# Altium schematic symbol library BIOSENSE_SCH.SchLib: 42 symbols
Pins are listed as number, name and electrical type; pins without a type are passive.

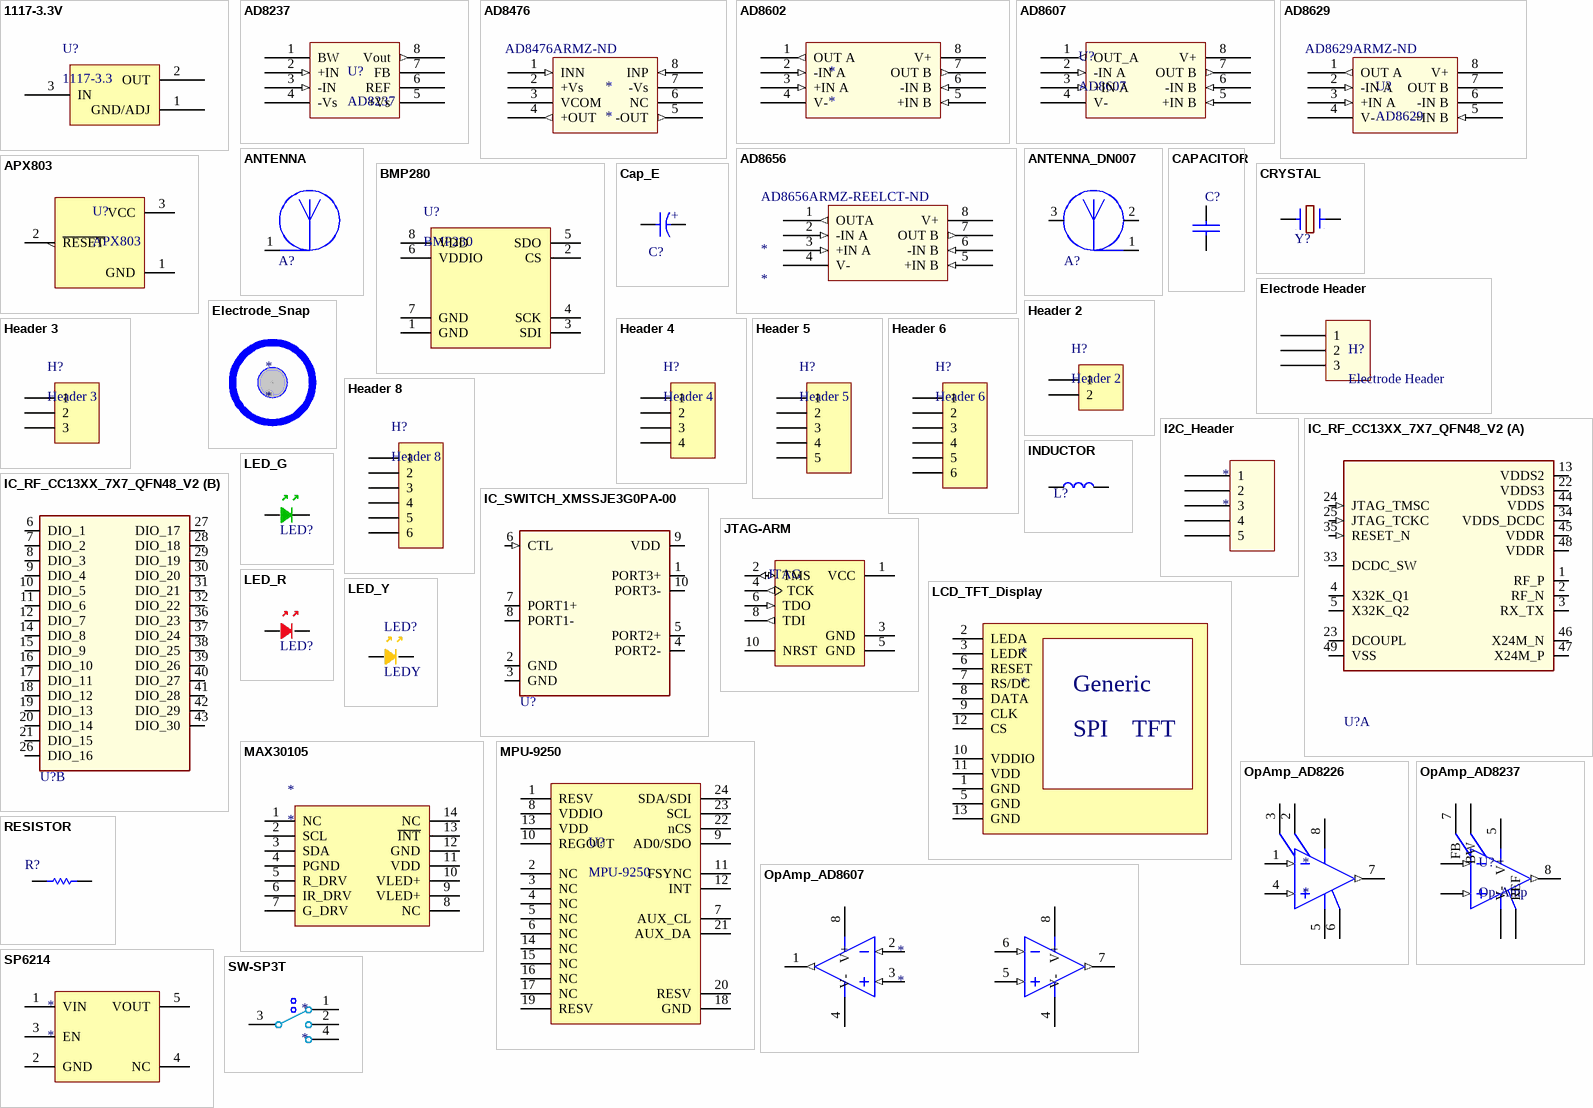
[diagram p0: symbols 1117-3.3V to SW-SP3T]

## 1117-3.3V
designator U?, comment 1117-3.3
3.3V Voltage Regulator
footprint SOT-223
pins: 1 GND/ADJ, 2 OUT, 3 IN

## AD8237
designator U?
Supplier 1: Digi-Key; Supplier Part Number 1: AD8237ARMZ-ND
footprint MSOP-8
pins: 1 BW, 2 +IN (in), 3 -IN (in), 4 -Vs (power), 5 +Vs (power), 6 REF, 7 FB, 8 Vout (out)

## AD8476
designator *  Supplier Part Number 1: AD8476ARMZ-ND
Supplier 1: Digi-Key
footprint MSOP-8
pins: 1 INN (in), 2 +Vs (power), 3 VCOM, 4 +OUT (out), 5 -OUT (out), 6 NC, 7 -Vs (power), 8 INP (in)

## AD8602
designator *
footprint MSOP-8
pins: 1 OUT A (out), 2 -IN A (in), 3 +IN A (in), 4 V- (power), 5 +IN B (in), 6 -IN B (in), 7 OUT B (out), 8 V+ (power)

## AD8607
designator U?
Supplier 1: Digi-Key; Supplier Part Number 1: AD8607ARMZ-R2CT-ND
footprint MSOP-8
pins: 1 OUT_A (out), 2 -IN A (in), 3 +IN A (in), 4 V- (power), 5 +IN B (in), 6 -IN B (in), 7 OUT B (out), 8 V+ (power)

## AD8629
designator U?  Supplier Part Number 1: AD8629ARMZ-ND
Supplier 1: Digi-Key
footprint MSOP-8
pins: 1 OUT A (out), 2 -IN A (in), 3 +IN A (in), 4 V- (power), 5 +IN B (in), 6 -IN B, 7 OUT B, 8 V+

## AD8656
designator *  Supplier Part Number 1: AD8656ARMZ-REELCT-ND
Supplier 1: Digi-Key
footprint MSOP-8
pins: 1 OUTA (out), 2 -IN A (in), 3 +IN A (in), 4 V- (power), 5 +IN B (in), 6 -IN B (in), 7 OUT B (out), 8 V+ (power)

## ANTENNA
designator A?
Designed by: Pawel Kwaskiewicz; CLASS: DISCRETE; Design date: 2010-02-22
footprint Sub-1GHz-Antenna
pins: 1 FEED/GND_1

## ANTENNA_DN007
designator A?
Designed by: Artur Bielinski; Design date: 2011-09-19
footprint Inverted_F_Antenna
pins: 1 FEED_1, 2 GND_2, 3 GND_3

## APX803
designator U?
footprint SOT23
pins: 1 GND, 2 ~{RESET}, 3 VCC

## BMP280
designator U?
footprint LGA-8
pins: 1 GND, 2 CS, 3 SDI, 4 SCK, 5 SDO, 6 VDDIO, 7 GND, 8 VDD

## Cap_E
designator C?, comment ?F  (value not drawn)
Capacitor; Value: ?F
footprint 2312 [IMP] Polar
pins: 1, 2
text: +

## CAPACITOR
designator C?
VOLTAGE: CMAX; CURRENT: CIMAX; KNEE: CBMAX; PSpiceTemplate: C^@REFDES %1 %2 ?TOLERANCE|C^@REFDES| @VALUE ?IC/IC=@IC/ TC=@TC1,@TC2 ?TOLERANCE|\n.model C^@REFDES CAP C=1 DEV=@TOLERANCE%|; DIST: FLAT; SLOPE: CSMAX; MAX_TEMP: CTMAX; TC1: 0; CLASS: DISCRETE; TC2: 0
simulation model CAPACITOR
footprint 0603[IMP]
footprint 0402[IMP]
footprint 0805[IMP]
footprint 1206[IMP]
pins: 1, 2
1 alternate drawing of the same symbol

## CRYSTAL
designator Y?
footprint FC-135
pins: 1, 2

## Electrode Header
designator H?
footprint Electrode Header
pins: 1, 2, 3

## Electrode_Snap
designator *
footprint Electrode_Socket
pins: 1 Signal

## Header 2
designator H?
footprint S2B-PH-SM4-TB (S2B-PH-SM$-TB)
pins: 1, 2

## Header 3
designator H?
footprint Header 3  -MolexPicoBlade - RightAngle
pins: 1, 2, 3

## Header 4
designator H?
footprint Header 4  -MolexPicoBlade - RightAngle
pins: 1, 2, 3, 4

## Header 5
designator H?
footprint Header 5  -MolexPicoBlade
footprint Header 5  -MolexPicoBlade - RightAngle
pins: 1, 2, 3, 4, 5

## Header 6
designator H?
pins: 1, 2, 3, 4, 5, 6

## Header 8
designator H?
pins: 1, 2, 3, 4, 5, 6

## I2C_Header
designator *
footprint I2C_Header
pins: 1, 2, 3, 4, 5

## IC_RF_CC13XX_7X7_QFN48_V2
designator U?
Designed_By: Artur Bielinski; SPLIT_INST: TRUE; SWAP_INFO: (S1+S2); Design_Date: 2014-09-04
footprint RGZ(S-PVQFN-N48) - duplicate
part A pins: 1 RF_P, 2 RF_N, 3 RX_TX (io), 4 X32K_Q1, 5 X32K_Q2, 13 VDDS2 (power), 22 VDDS3 (power), 23 DCOUPL, 24 JTAG_TMSC (in), 25 JTAG_TCKC (in), 33 DCDC_SW (power), 34 VDDS_DCDC (power), 35 RESET_N (in), 44 VDDS (power), 45 VDDR (power), 46 X24M_N, 47 X24M_P, 48 VDDR (power), 49 VSS (power)
part B pins: 6 DIO_1 (io), 7 DIO_2 (io), 8 DIO_3 (io), 9 DIO_4 (io), 10 DIO_5 (io), 11 DIO_6 (io), 12 DIO_7 (io), 14 DIO_8 (io), 15 DIO_9 (io), 16 DIO_10 (io), 17 DIO_11 (io), 18 DIO_12 (io), 19 DIO_13 (io), 20 DIO_14 (io), 21 DIO_15 (io), 26 DIO_16 (io), 27 DIO_17 (io), 28 DIO_18 (io), 29 DIO_19 (io), 30 DIO_20 (io), 31 DIO_21 (io), 32 DIO_22 (io), 36 DIO_23 (io), 37 DIO_24 (io), 38 DIO_25 (io), 39 DIO_26 (io), 40 DIO_27 (io), 41 DIO_28 (io), 42 DIO_29 (io), 43 DIO_30 (io)

## IC_SWITCH_XMSSJE3G0PA-00
designator U?
CLASS: IC; Designed_By: Artur Bielinski; Design_Date: 2015-06-03
footprint TSLP-10-1
pins: 1 PORT3+, 2 GND (power), 3 GND (power), 4 PORT2-, 5 PORT2+, 6 CTL (in), 7 PORT1+, 8 PORT1-, 9 VDD (power), 10 PORT3-

## INDUCTOR
designator L?
Current: LMAX; PSpiceTemplate: L^@REFDES %1 %2 ?TOLERANCE|L^@REFDES| @VALUE ?IC/IC=@IC/ ?TOLERANCE|\n.model l^@REFDES IND L=1 DEV=@TOLERANCE%|; DIELECTRIC: DSMAX; DIST: FLAT
simulation model INDUCTOR
footprint 0402[IMP]
pins: 1, 2

## JTAG-ARM
designator H?, comment JTAG
USB JTAG Programmer
footprint HDR-2*5-0.05_Without_Through_Hole
pins: 1 VCC (power), 2 TMS (io), 3 GND (power), 4 TCK (out), 5 GND (power), 6 TDO (in), 8 TDI (out), 10 NRST

## LCD_TFT_Display
designator *
footprint LCD_Ribbon
pins: 1 GND, 2 LEDA, 3 LEDK, 5 GND, 6 RESET, 7 RS/DC, 8 DATA, 9 CLK, 10 VDDIO, 11 VDD, 12 CS, 13 GND
text: Generic; SPI    TFT

## LED_G
designator LED?, comment LEDG  (value not drawn)
LED; Value: ?
footprint 0805[IMP] - POLAR
pins: 1 A, 2 K

## LED_R
designator LED?, comment LEDR  (value not drawn)
LED; Value: ?
footprint 0805[IMP] - POLAR
pins: 1 A, 2 K

## LED_Y
designator LED?, comment LEDY
LED; Value: ?
footprint 0805[IMP] - POLAR
pins: 1 A, 2 K

## MAX30105
designator *
footprint OLGA-14
pins: 1 NC, 2 SCL, 3 SDA, 4 PGND, 5 R_DRV, 6 IR_DRV, 7 G_DRV, 8 NC, 9 VLED+, 10 VLED+, 11 VDD, 12 GND, 13 ~{INT}, 14 NC

## MPU-9250
designator U?
footprint QFN-24-3mmx3mm
pins: 1 RESV, 2 NC, 3 NC, 4 NC, 5 NC, 6 NC, 7 AUX_CL, 8 VDDIO, 9 AD0/SDO, 10 REGOUT, 11 FSYNC, 12 INT, 13 VDD, 14 NC, 15 NC, 16 NC, 17 NC, 18 GND, 19 RESV, 20 RESV, 21 AUX_DA, 22 nCS, 23 SCL, 24 SDA/SDI

## OpAmp_AD8226
designator *
footprint SO-8_N (SOIC, 8-Leads, Body 4.9x3.9mm, Pitch 1.27mm, IPC Medium Density)
pins: 1 -IN (in), 2 GAIN1, 3 GAIN2, 4 +IN (in), 5 V- (power), 6 GND (power), 7 OUT (out), 8 V+ (power)

## OpAmp_AD8237
designator U?, comment Op-Amp
footprint SO-8_N (SOIC, 8-Leads, Body 4.9x3.9mm, Pitch 1.27mm, IPC Medium Density)
footprint MSOP-8
pins: 1 BW, 2 +IN (in), 3 -IN (in), 4 V- (power), 5 V+ (power), 6 REF (power), 7 FB, 8 OUT (out)

## OpAmp_AD8607
designator *
footprint MSOP-8
pins: 1 OUT (out), 2 -IN (in), 3 +IN (in), 4 V- (power), 4 V- (power), 5 +IN (in), 6 -IN (in), 7 OUT (out), 8 V+ (power), 8 V+ (power)

## RESISTOR
designator R?
footprint 0402[IMP]
footprint 0603[IMP]
footprint 0805[IMP]
footprint 1206[IMP]
pins: 1, 2

## SP6214
designator *
footprint SC70-5pin
pins: 1 VIN, 2 GND, 3 EN, 4 NC, 5 VOUT

## SW-SP3T
designator *
footprint CL-SB-13B (Three pos switch)
pins: 1, 2, 3, 4

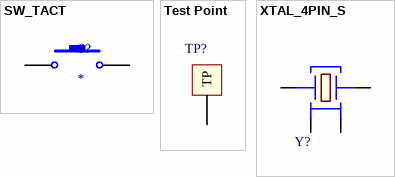
[diagram p1: symbols SW_TACT to XTAL_4PIN_S]

## SW_TACT
designator S?
Tactile switch
footprint PTS645SH50SMTR92_LFS (Tactile switch)
footprint PTS645SH50SMTR92_LFS (Tactile switch)
pins: 1, 2

## Test Point
designator TP?  (value not drawn)
footprint Test_Point
pins: 1 TP (power)

## XTAL_4PIN_S
designator Y?
footprint TSX-3225
pins: 1, 2 (power), 3, 4 (power)